# Altium schematic symbol library CP2102-GMR.Schlib: 1 symbol
Pins are listed as number, name and electrical type; pins without a type are passive.

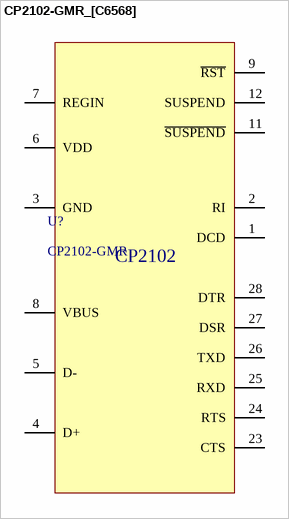
[diagram p0: symbol CP2102-GMR_[C6568]]

## CP2102-GMR_[C6568]
designator U?, comment CP2102-GMR
USB
footprint QFN-28_5x5x05P
pins: 1 DCD, 2 RI, 3 GND, 4 D+, 5 D-, 6 VDD, 7 REGIN, 8 VBUS, 9 ~{RST}, 11 ~{SUSPEND}, 12 SUSPEND, 23 CTS, 24 RTS, 25 RXD, 26 TXD, 27 DSR, 28 DTR
text: CP2102